# EAGLE library part B8B-EH (library con-jst-eh)
JST EH series header 2.50mm pitch disconnectable crimp style connectors, vertical (side entry type), 8 pins
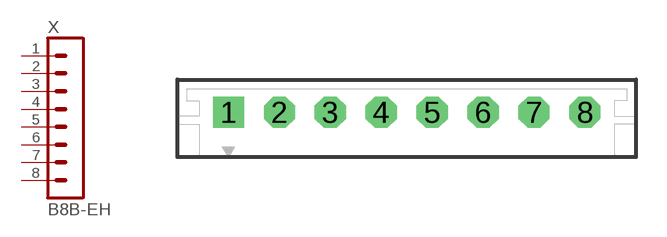
[diagram p2: symbol with the pads of B8B-EH-A; footprint B8B-EH-A]

Designator prefix X

## B8B-EH-A  [B8B-EH-A]
1  1  pas
2  2  pas
3  3  pas
4  4  pas
5  5  pas
6  6  pas
7  7  pas
8  8  pas

## Footprint B8B-EH-A (pad centres in mm)
JST EH series header 2.50mm pitch disconnectable crimp style connectors, vertical (top entry type), 8 pins
drill 0.9 pad 1.524 square: 1 -8.75,0
drill 0.9 pad 1.524 octagon: 2 -6.25,0; 3 -3.75,0; 4 -1.25,0; 5 1.25,0; 6 3.75,0; 7 6.25,0; 8 8.75,0